# EAGLE library part AD603 (library Radicon)
AD603 Low Noise, 90 MHz Variable Gain Amplifier
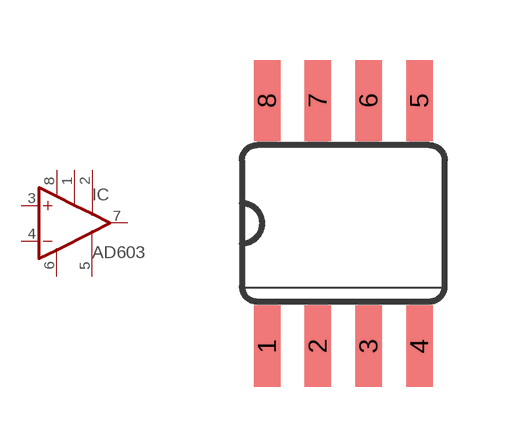
[diagram p27: symbol with the pads of SO08; footprint SO08]

Designator prefix IC

## AD603  [SO08]
1  GPOS  in
2  GNEG  in
3  +IN  in
4  -IN  in
5  FDBK  in
6  V-  pwr
7  OUT  out
8  V+  pwr

## Footprint SO08 (pad centres in mm)
Small Outline package 8 150 mil
smd 0.66 x 2.032: 1 -1.905,-3.073; 2 -0.635,-3.073; 3 0.635,-3.073; 4 1.905,-3.073; 5 1.905,3.073; 6 0.635,3.073; 7 -0.635,3.073; 8 -1.905,3.073